# Altium schematic symbol library orn_proj_lib.SchLib: 11 symbols
Pins are listed as number, name and electrical type; pins without a type are passive.

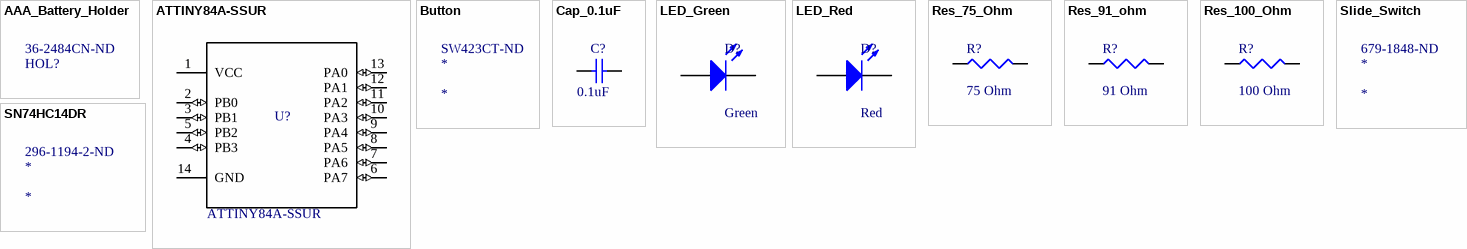
[diagram p0: symbols AAA_Battery_Holder to SN74HC14DR]

## AAA_Battery_Holder
designator HOL?  Supplier Part Number 1: 36-2484CN-ND  (hidden comment: *)
Manufacturer 1: Keystone Electronics; Manufacturer Part Number 1: 2484CN; Supplier 1: Digi-Key; Stock 1: 804; Pricing 1: 1=2.61000, 10=2.19300, 50=1.92640, 250=1.66840, 1000=1.46200, 2500=1.32440, 5000=1.20400 (USD); RoHS: No

## ATTINY84A-SSUR
designator U?  Manufacturer Part Number 1: ATTINY84A-SSUR  (hidden comment: *)
IC MCU 8BIT 8KB FLASH 14SOIC; Manufacturer 1: Microchip / Atmel; Data Bus Width: 8b; Core Architecture: AVR; RAM Size: 512B; Interface: SPI; Number of I/Os: 12; Number of Timers/Counters: 2; Frequency: 20MHz; Max Supply Voltage: 5.5V; Min Supply Voltage: 1.8V; Oscillator Type: Internal; Watchdog Timer: Yes; Peripherals: Brown-out Detect/Reset,POR,PWM,WDT,Temp Sensor; Supplier 1: Digi-Key; Stock 1: 10698; Pricing 1: 1=0.82000, 25=0.75000, 100=0.68000 (USD); RoHS: Yes; Mount: Surface Mount; Case/Package: SOIC; Number of Pins: 14; Contact Plating: Tin,Matte; Min Operating Temperature: -40°C; Max Operating Temperature: 85°C; Package Quantity: 3000; Packaging: Tape and Reel; Number of Programmable I/O: 12; Max Frequency: 20MHz; Memory Type: FLASH; Memory Size: 8KB; Radiation Hardening: No; Lead Free: Lead Free; ComponentLink1URL: https://datasheet.ciiva.com/1554/8183s-1554784.pdf?src-supplier=Avnet; ComponentLink1Description: https://datasheet.ciiva.com/1554/8183s-1554784.pdf?src-supplier=Avnet; ComponentLink2URL: https://datasheet.ciiva.com/1554/8183s-1554944.pdf?src-supplier=Digi-Key; ComponentLink2Description: https://datasheet.ciiva.com/1554/8183s-1554944.pdf?src-supplier=Digi-Key; ComponentLink3URL: https://datasheet.ciiva.com/1554/8183s-1554946.pdf?src-supplier=Digi-Key; ComponentLink3Description: https://datasheet.ciiva.com/1554/8183s-1554946.pdf?src-supplier=Digi-Key; ComponentLink4URL: https://datasheet.ciiva.com/1554/8183s-1554945.pdf?src-supplier=Digi-Key; ComponentLink4Description: https://datasheet.ciiva.com/1554/8183s-1554945.pdf?src-supplier=Digi-Key; Supplier Part Number 1: ATTINY84A-SSURCT-ND
pins: 1 VCC (power), 2 PB0 (io), 3 PB1 (io), 4 PB3 (io), 5 PB2 (io), 6 PA7 (io), 7 PA6 (io), 8 PA5 (io), 9 PA4 (io), 10 PA3 (io), 11 PA2 (io), 12 PA1 (io), 13 PA0 (io), 14 GND

## Button
designator *  Supplier Part Number 1: SW423CT-ND
OMRON ELECTRONIC COMPONENTS         B3FS1000P            SWITCH, FLAT, 6X6X3.1, 100GF; Manufacturer Part Number 1: B3FS-1000P; Mechanical Life: 1000000Cycles; Throw Configuration: SPST; Current Rating: 50mA; Operating Force: 0.98N; Voltage Rating (DC): 24V; Contact Resistance: 100mR; Illumination Type: Non-Illuminated,Illuminated; Number of Poles: 1; Switch Travel: 0.25mm; Switch Function: Off-Mom; Actuator Type: Standard; Actuator Length: 0.5mm; Supplier 1: Digi-Key; Manufacturer 1: Omron; Stock 1: 95126; Pricing 1: 1=0.65000, 10=0.62700, 25=0.61520, 50=0.59220, 100=0.51090, 250=0.46444, 500=0.44120, 1000=0.34832 (USD); RoHS: Yes; Mount: Surface Mount; Case/Package: SMD/SMT; Weight: 0.2g; Contact Material: Silver; Contact Plating: Silver; Material: Plastic; Min Operating Temperature: -25°C; Max Operating Temperature: 70°C; Package Quantity: 1; Packaging: Tape and Reel; Contact Current Rating: 50mA; Max Current Rating: 50mA; Max Voltage Rating (DC): 24V; Termination: Gull Wing; Electrical Life: 1000000Cycles; Orientation: Straight; Length: 6.3mm; Depth: 8mm; REACH SVHC: Unknown; Lead Free: Lead Free; ComponentLink1URL: https://datasheet.ciiva.com/2899/en-b3fs-2899744.pdf?src-supplier=Digi-Key; ComponentLink1Description: https://datasheet.ciiva.com/2899/en-b3fs-2899744.pdf?src-supplier=Digi-Key; ComponentLink2URL: https://datasheet.ciiva.com/2899/en-b3fs-2899746.pdf?src-supplier=Digi-Key; ComponentLink2Description: https://datasheet.ciiva.com/2899/en-b3fs-2899746.pdf?src-supplier=Digi-Key; ComponentLink3URL: https://datasheet.ciiva.com/1532/en-b3fs-1532627.pdf?src-supplier=Element14; ComponentLink3Description: https://datasheet.ciiva.com/1532/en-b3fs-1532627.pdf?src-supplier=Element14; ComponentLink4URL: https://datasheet.ciiva.com/30214/b3fs-0714-30214221.pdf?src-supplier=Onlinecomponents.com; ComponentLink4Description: https://datasheet.ciiva.com/30214/b3fs-0714-30214221.pdf?src-supplier=Onlinecomponents.com; ComponentLink5URL: https://datasheet.ciiva.com/2899/en-b3fs-2899745.pdf?src-supplier=Digi-Key; ComponentLink5Description: https://datasheet.ciiva.com/2899/en-b3fs-2899745.pdf?src-supplier=Digi-Key; ComponentLink6URL: https://datasheet.ciiva.com/26827/getdatasheetpartid-131603-26827237.pdf?src-supplier=Verical; ComponentLink6Description: https://datasheet.ciiva.com/26827/getdatasheetpartid-131603-26827237.pdf?src-supplier=Verical; ComponentLink7URL: https://datasheet.ciiva.com/16154/en-b3fs-16154936.pdf?src-supplier=Onlinecomponents.com; ComponentLink7Description: https://datasheet.ciiva.com/16154/en-b3fs-16154936.pdf?src-supplier=Onlinecomponents.com

## Cap_0.1uF
designator C?, comment value 0.1uF  (hidden comment: Cap Semi)
Capacitor (Semiconductor SIM Model); Manufacturer 1: Samsung; Manufacturer Part Number 1: CL21B104JBCNNNC; Description: Cap Ceramic 0.1uF 50V X7R 5% SMD 0805 125C Paper T/R; Material: Ceramic; Voltage Rating: 50V; Capacitance: 100nF; Tolerance: 5%; Dielectric: X7R; Published: 8-Jun-2000; LatestRevisionDate: 29-May-2009; LatestRevisionNote: IPC-7351 Footprint Added.; PackageReference: C1206; Publisher: Altium Limited; PackageDescription: Chip Capacitor; Supplier 1: Digi-Key; Stock 1: 92118; Pricing 1: 1=0.10000, 10=0.07000, 100=0.03130, 500=0.02234, 1000=0.01755 (USD); RoHS: Yes; Mount: Surface Mount; Case/Package: 0805; Contact Plating: Tin; Case Code (Metric): 2012; Case Code (Imperial): 0805; Min Operating Temperature: -55°C; Max Operating Temperature: 125°C; Package Quantity: 1; Packaging: Tape and Reel; Voltage: 50V; Length: 2mm; Height: 0.85mm; Width: 0.049inch; Thickness: 0.037inch; Depth: 1.25mm; Radiation Hardening: No; ComponentLink1URL: https://datasheet.ciiva.com/25799/cl21b104jbcnnnc-25799232.pdf?src-supplier=Digi-Key; ComponentLink1Description: https://datasheet.ciiva.com/25799/cl21b104jbcnnnc-25799232.pdf?src-supplier=Digi-Key; ComponentLink2URL: https://datasheet.ciiva.com/26838/getdatasheetpartid-354073-26838656.pdf?src-supplier=Verical; ComponentLink2Description: https://datasheet.ciiva.com/26838/getdatasheetpartid-354073-26838656.pdf?src-supplier=Verical; ComponentLink3URL: https://datasheet.ciiva.com/29199/454108-da-01-en-vs-kondensator-0805-29199802.pdf?src-supplier=Conrad; ComponentLink3Description: https://datasheet.ciiva.com/29199/454108-da-01-en-vs-kondensator-0805-29199802.pdf?src-supplier=Conrad; ComponentLink4URL: https://datasheet.ciiva.com/16508/hsm00000015872757-16508637.pdf?src-supplier=Future+Electronics; ComponentLink4Description: https://datasheet.ciiva.com/16508/hsm00000015872757-16508637.pdf?src-supplier=Future+Electronics; Supplier Part Number 1: 1276-1090-1-ND
footprint C1206 (Chip Capacitor, Body 3.2x1.6mm, IPC High Density)
footprint 0402 (Chip Capacitor, Body 1.0x0.5mm, IPC High Density)
footprint C2512 (Chip Capacitor, Body 2.54x1.27mm, IPC High Density)
footprint 1608[0603] (Chip Capacitor, Body 1.6x0.8mm, IPC High Density)
footprint C1210 (Chip Capacitor, Body 3.2x2.5mm, IPC High Density)
simulation model CAP (Semiconductor Capacitor)
signal-integrity model Cap Semi
pins: 1, 2

## LED_Green
designator D?, comment Green
Typical RED, GREEN, YELLOW, AMBER GaAs LED; Manufacturer 1: Wurth Electronics; Manufacturer Part Number 1: 150080VS75000; Description: WURTH ELEKTRONIK   150080VS75000   LED, 0805, B GREEN, 40MCD, 570NM; Luminous Intensity: 40mcd; Forward Current: 30mA; Forward Voltage: 2V; Viewing Angle: 140°; Wavelength: 570nm; Lens Style: Clear,Rectangular; Test Current: 20mA; Published: 8-Jun-2000; LatestRevisionDate: 17-Jul-2002; LatestRevisionNote: Re-released for DXP Platform.; PackageVersion: Feb-2002; PackageReference: 3.2X1.6X1.1; Publisher: Altium Limited; PackageDescription: SM LED; 2 Flat Leads; Supplier 1: Digi-Key; Stock 1: 48000; Pricing 1: 4000=0.12300 (USD); RoHS: Yes; Mount: Surface Mount; Case/Package: 0805; Color: Green; Case Code (Metric): 2012; Case Code (Imperial): 0805; Min Operating Temperature: -40°C; Max Operating Temperature: 85°C; Package Quantity: 4000; Packaging: Tape and Reel; Dominant Wavelength: 570nm; Length: 2mm; Height: 0.7mm; Width: 1.25mm; REACH SVHC: Unknown; ComponentLink1URL: https://datasheet.ciiva.com/22656/150080vs75000-22656966.pdf?src-supplier=Element14; ComponentLink1Description: https://datasheet.ciiva.com/22656/150080vs75000-22656966.pdf?src-supplier=Element14; ComponentLink2URL: https://datasheet.ciiva.com/29279/759437-da-01-en-chipled-0805-w-kl-h-gruen-150080vs7500-29279047.pdf?src-supplier=Conrad; ComponentLink2Description: https://datasheet.ciiva.com/29279/759437-da-01-en-chipled-0805-w-kl-h-gruen-150080vs7500-29279047.pdf?src-supplier=Conrad; ComponentLink3URL: https://datasheet.ciiva.com/29563/150080vs75000-29563018.pdf?src-supplier=Digi-Key; ComponentLink3Description: https://datasheet.ciiva.com/29563/150080vs75000-29563018.pdf?src-supplier=Digi-Key; Supplier Part Number 1: 732-4986-2-ND
footprint 3.2X1.6X1.1 (SMT LED; 2 Flat Leads)
simulation model LED2 (Diode)
pins: 1 A, 2 K

## LED_Red
designator D?, comment Red
Typical RED, GREEN, YELLOW, AMBER GaAs LED; Manufacturer 1: Wurth Electronics; Manufacturer Part Number 1: 150080VS75000; Description: WURTH ELEKTRONIK   150080VS75000   LED, 0805, B GREEN, 40MCD, 570NM; Luminous Intensity: 40mcd; Forward Current: 30mA; Forward Voltage: 2V; Viewing Angle: 140°; Wavelength: 570nm; Lens Style: Clear,Rectangular; Test Current: 20mA; Published: 8-Jun-2000; LatestRevisionDate: 17-Jul-2002; LatestRevisionNote: Re-released for DXP Platform.; PackageVersion: Feb-2002; PackageReference: 3.2X1.6X1.1; Publisher: Altium Limited; PackageDescription: SM LED; 2 Flat Leads; Supplier 1: Digi-Key; Stock 1: 48000; Pricing 1: 4000=0.12300 (USD); RoHS: Yes; Mount: Surface Mount; Case/Package: 0805; Color: Green; Case Code (Metric): 2012; Case Code (Imperial): 0805; Min Operating Temperature: -40°C; Max Operating Temperature: 85°C; Package Quantity: 4000; Packaging: Tape and Reel; Dominant Wavelength: 570nm; Length: 2mm; Height: 0.7mm; Width: 1.25mm; REACH SVHC: Unknown; ComponentLink1URL: https://datasheet.ciiva.com/22656/150080vs75000-22656966.pdf?src-supplier=Element14; ComponentLink1Description: https://datasheet.ciiva.com/22656/150080vs75000-22656966.pdf?src-supplier=Element14; ComponentLink2URL: https://datasheet.ciiva.com/29279/759437-da-01-en-chipled-0805-w-kl-h-gruen-150080vs7500-29279047.pdf?src-supplier=Conrad; ComponentLink2Description: https://datasheet.ciiva.com/29279/759437-da-01-en-chipled-0805-w-kl-h-gruen-150080vs7500-29279047.pdf?src-supplier=Conrad; ComponentLink3URL: https://datasheet.ciiva.com/29563/150080vs75000-29563018.pdf?src-supplier=Digi-Key; ComponentLink3Description: https://datasheet.ciiva.com/29563/150080vs75000-29563018.pdf?src-supplier=Digi-Key; Supplier Part Number 1: 732-4986-2-ND; Supplier 2: Digi-Key; Manufacturer 2: SunLED; Manufacturer Part Number 2: XZMDK54W-8; Stock 2: 2620; Pricing 2: 1=0.49000, 10=0.34700, 100=0.20210, 500=0.13860, 1000=0.11550 (USD); ComponentLink4URL: http://www.sunledusa.com/products/spec/XZMDK54W-8.pdf?src-supplier=Digi-Key; ComponentLink4Description: http://www.sunledusa.com/products/spec/XZMDK54W-8.pdf?src-supplier=Digi-Key; Supplier Part Number 2: 1497-1431-1-ND
footprint 3.2X1.6X1.1 (SMT LED; 2 Flat Leads)
simulation model LED2 (Diode)
pins: 1 A, 2 K

## Res_75_Ohm
designator R?, comment value 75 Ohm  (hidden comment: Res3)
Resistor; Manufacturer 1: Stackpole Electronics; Manufacturer Part Number 1: RNCP0805FTD75R0; Description: RES SMD 75 OHM 1% 1/4W 0805; Resistance: 75R; Tolerance: 1%; Max Power Dissipation: 250mW; Temperature Coefficient: 100ppm/°C; Published: 8-Jun-2000; LatestRevisionDate: 29-May-2009; LatestRevisionNote: IPC-7351 Footprint Added.; PackageReference: J1-0603; Publisher: Altium Limited; PackageDescription: Chip Resistor; Supplier 1: Digi-Key; Stock 1: 16930; Pricing 1: 1=0.10000, 10=0.07200, 100=0.02770, 1000=0.01220, 2500=0.01053 (USD); RoHS: Yes; Mount: Surface Mount; Case/Package: 0805; Case Code (Metric): 2012; Case Code (Imperial): 0805; Min Operating Temperature: -55°C; Max Operating Temperature: 155°C; Packaging: Tape and Reel; Composition: Thin Film; Number of Terminations: 2; Features: Moisture Resistant,Anti-Sulfur; Length: 0.079inch; Height: 0.024inch; Width: 0.049inch; ComponentLink1URL: http://www.seielect.com/Catalog/SEI-rncp.pdf?src-supplier=Digi-Key; ComponentLink1Description: http://www.seielect.com/Catalog/SEI-rncp.pdf?src-supplier=Digi-Key; ComponentLink2URL: https://www.seielect.com/catalog/SEI-Packaging.pdf?src-supplier=Digi-Key; ComponentLink2Description: https://www.seielect.com/catalog/SEI-Packaging.pdf?src-supplier=Digi-Key; Supplier Part Number 1: RNCP0805FTD75R0CT-ND
footprint J1-0603 (Chip Resistor, Body 1.6x0.8mm, IPC High Density)
footprint 14-1210 (Chip Resistor, Body 3.2x2.5mm, IPC High Density)
footprint 12Z-2010 (Chip Resistor, Body 5.0x2.5mm, IPC High Density)
footprint RESC6332 (Chip Resistor, Body 6.3x3.2mm, IPC High Density)
simulation model RESISTOR (Resistor)
signal-integrity model Res
pins: 1, 2

## Res_91_ohm
designator R?, comment value 91 Ohm  (hidden comment: Res3)
Resistor; Manufacturer 1: KOA Speer; Manufacturer Part Number 1: RK73B2ATTD910J; Description: Thick Film Resistors - SMD 1/8watts 91ohms 5%; Resistance: 91R; Tolerance: 5%; Power Rating: 125mW; Voltage Rating: 150V; Temperature Coefficient: 200ppm/°C; Published: 8-Jun-2000; LatestRevisionDate: 29-May-2009; LatestRevisionNote: IPC-7351 Footprint Added.; PackageReference: J1-0603; Publisher: Altium Limited; PackageDescription: Chip Resistor; Supplier 1: Digi-Key; Stock 1: 9945; Pricing 1: 1=0.10000, 10=0.02800, 100=0.01160, 1000=0.00520, 2500=0.00452 (USD); RoHS: Yes; Case/Package: 0805; Case Code (Imperial): 0805; Case Code (Metric): 2012; Min Operating Temperature: -55°C; Max Operating Temperature: 155°C; Packaging: Tape and Reel; Package Quantity: 5000; Composition: Thick Film; Termination: SMD/SMT; Military Standard: Not; Voltage Rating (DC): 150V; Length: 2mm; Height: 0.5mm; Width: 1.25mm; Depth: 1.25mm; Lead Free: Lead Free; ComponentLink1URL: http://www.koaspeer.com/catimages/Products/RK73B/RK73B.pdf?src-supplier=Mouser; ComponentLink1Description: http://www.koaspeer.com/catimages/Products/RK73B/RK73B.pdf?src-supplier=Mouser; Supplier Part Number 1: 2019-RK73B2ATTD910JCT-ND
footprint J1-0603 (Chip Resistor, Body 1.6x0.8mm, IPC High Density)
footprint 14-1210 (Chip Resistor, Body 3.2x2.5mm, IPC High Density)
footprint 12Z-2010 (Chip Resistor, Body 5.0x2.5mm, IPC High Density)
footprint RESC6332 (Chip Resistor, Body 6.3x3.2mm, IPC High Density)
simulation model RESISTOR (Resistor)
signal-integrity model Res
footprint C0805 (Footprint not found)
pins: 1, 2

## Res_100_Ohm
designator R?, comment value 100 Ohm  (hidden comment: Res3)
Resistor; Manufacturer 1: Stackpole Electronics; Manufacturer Part Number 1: RNCP0805FTD100R; Description: RES SMD 100 OHM 1% 1/4W 0805; Resistance: 100R; Tolerance: 1%; Max Power Dissipation: 250mW; Temperature Coefficient: 100ppm/°C; Published: 8-Jun-2000; LatestRevisionDate: 29-May-2009; LatestRevisionNote: IPC-7351 Footprint Added.; PackageReference: J1-0603; Publisher: Altium Limited; PackageDescription: Chip Resistor; Supplier 1: Digi-Key; Stock 1: 253189; Pricing 1: 1=0.10000, 10=0.07200, 100=0.02770, 1000=0.01220, 2500=0.01053 (USD); RoHS: Yes; Mount: Surface Mount; Case/Package: 0805; Case Code (Metric): 2012; Case Code (Imperial): 0805; Min Operating Temperature: -55°C; Max Operating Temperature: 155°C; Packaging: Tape and Reel; Composition: Thin Film; Number of Terminations: 2; Features: Moisture Resistant,Anti-Sulfur; Length: 0.079inch; Height: 0.024inch; Width: 0.049inch; Lead Free: Lead Free; ComponentLink1URL: http://www.seielect.com/Catalog/SEI-rncp.pdf?src-supplier=Digi-Key; ComponentLink1Description: http://www.seielect.com/Catalog/SEI-rncp.pdf?src-supplier=Digi-Key; ComponentLink2URL: https://www.seielect.com/catalog/SEI-Packaging.pdf?src-supplier=Digi-Key; ComponentLink2Description: https://www.seielect.com/catalog/SEI-Packaging.pdf?src-supplier=Digi-Key; Supplier Part Number 1: RNCP0805FTD100RCT-ND
footprint J1-0603 (Chip Resistor, Body 1.6x0.8mm, IPC High Density)
footprint 14-1210 (Chip Resistor, Body 3.2x2.5mm, IPC High Density)
footprint 12Z-2010 (Chip Resistor, Body 5.0x2.5mm, IPC High Density)
footprint RESC6332 (Chip Resistor, Body 6.3x3.2mm, IPC High Density)
simulation model RESISTOR (Resistor)
signal-integrity model Res
pins: 1, 2

## Slide_Switch
designator *  Supplier Part Number 1: 679-1848-ND
SWITCH SLIDE SPDT 300MA 6V; Manufacturer 1: APEM; Manufacturer Part Number 1: MHSS1104; Actuator Material: Nylon,Polyamide; Contact Resistance: 60mR; Electrical Life: 5000Cycles; Illumination Type: Non-Illuminated; Switch Travel: 2mm; Switch Function: On-On; Actuator Type: Standard; Supplier 1: Digi-Key; Stock 1: 6747; Pricing 1: 1=0.55000, 10=0.52800, 25=0.51720, 50=0.46200, 100=0.44000, 250=0.42900, 500=0.36300, 1000=0.35200, 5000=0.30800 (USD); RoHS: Yes; Mount: Through Hole; Contact Plating: Silver; Min Operating Temperature: -20°C; Max Operating Temperature: 70°C; Contact Current Rating: 300mA; Package Quantity: 100; Voltage Rating (AC): 6V; Voltage Rating (DC): 6V; Throw Configuration: SPDT; Packaging: Bulk; Current Rating: 300mA; Max Voltage Rating (DC): 6V; Termination: PC Pin; Orientation: Straight; Actuator Length: 2mm; ComponentLink1URL: https://datasheet.ciiva.com/16174/mhss-micro-slide-16174519.pdf?src-supplier=Onlinecomponents.com; ComponentLink1Description: https://datasheet.ciiva.com/16174/mhss-micro-slide-16174519.pdf?src-supplier=Onlinecomponents.com

## SN74HC14DR
designator *  Supplier Part Number 1: 296-1194-2-ND
IC INVERTER SCHMITT 6CH 14SOIC; Manufacturer 1: Texas Instruments; Manufacturer Part Number 1: SN74HC14DR; Min Supply Voltage: 2V; Max Supply Voltage: 6V; Logic Function: Buffer,Inverter,Schmitt Trigger; Number of Elements: 6; Operating Supply Voltage: 5V; Number of Inputs: 1; Propagation Delay: 21ns; Output Current: 5.2mA; Quiescent Current: 2uA; High Level Output Current: -5.2mA; Turn-On Delay Time: 31ns; Schmitt Trigger Input: Yes; Supplier 1: Digi-Key; Stock 1: 37500; Pricing 1: 2500=0.10440, 5000=0.09860, 12500=0.08990 (USD); RoHS: Yes; Mount: Surface Mount; Case/Package: SOIC; Number of Pins: 14; Weight: 0.004318oz; Contact Plating: Gold; Min Operating Temperature: -40°C; Max Operating Temperature: 85°C; Packaging: Tape and Reel; Package Quantity: 2500; Number of Circuits: 6; Low Level Output Current: 5.2mA; Number of Gates: 6; Number of Bits: 6; Length: 8.65mm; Height: 1.58mm; Width: 3.91mm; Radiation Hardening: No; REACH SVHC: No SVHC; Lead Free: Lead Free; ComponentLink1URL: https://datasheet.ciiva.com/19481/1999661-19481666.pdf?src-supplier=Jameco; ComponentLink1Description: https://datasheet.ciiva.com/19481/1999661-19481666.pdf?src-supplier=Jameco; ComponentLink2URL: https://datasheet.ciiva.com/15089/getdatasheetpartid-253157-15089478.pdf?src-supplier=Verical; ComponentLink2Description: https://datasheet.ciiva.com/15089/getdatasheetpartid-253157-15089478.pdf?src-supplier=Verical; ComponentLink3URL: https://datasheet.ciiva.com/7281/sn74hc14-7281611.pdf?src-supplier=Newark; ComponentLink3Description: https://datasheet.ciiva.com/7281/sn74hc14-7281611.pdf?src-supplier=Newark; ComponentLink4URL: https://datasheet.ciiva.com/1864/sn74hc14-1864641.pdf?src-supplier=Digi-Key; ComponentLink4Description: https://datasheet.ciiva.com/1864/sn74hc14-1864641.pdf?src-supplier=Digi-Key; ComponentLink5URL: https://datasheet.ciiva.com/1864/sn74hc14-1864642.pdf?src-supplier=Digi-Key; ComponentLink5Description: https://datasheet.ciiva.com/1864/sn74hc14-1864642.pdf?src-supplier=Digi-Key; ComponentLink6URL: https://datasheet.ciiva.com/1864/sn74hc14-1864643.pdf?src-supplier=Digi-Key; ComponentLink6Description: https://datasheet.ciiva.com/1864/sn74hc14-1864643.pdf?src-supplier=Digi-Key; ComponentLink7URL: https://datasheet.ciiva.com/14290/sn54hc14-14290367.pdf?src-supplier=Avnet; ComponentLink7Description: https://datasheet.ciiva.com/14290/sn54hc14-14290367.pdf?src-supplier=Avnet